# Altium footprint library 653 0xx 114 822.PcbLib: 9 footprints
Each footprint in its own frame and in the unit in brackets; x right, y up, seen from the top. Pads: shape width x height; smd on the part's side, far side on the other; paste and mask are expansions set on the pad; w line width, h text height; cw(c..) or ccw(c..) is an arc to the next point about the centre after c.
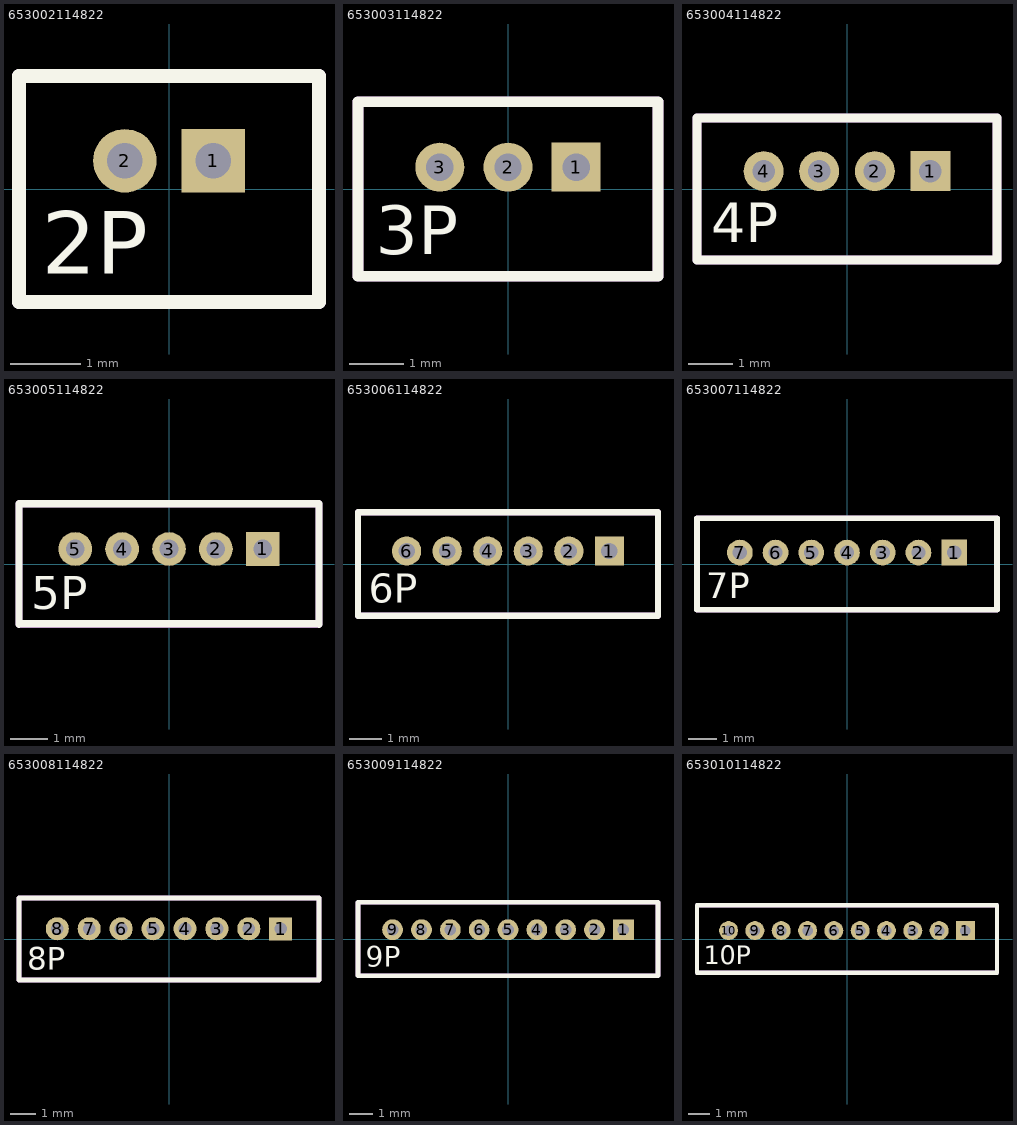
[diagram p0: the footprints below, top view; thin cyan lines are the x and y axes]

## 653002114822 [mm] "1.25mm Male Vertical Shrouded Header, 2p"
height 4.2
pads (2):
  rect 0.9x0.9 hole 0.5: 1(0.625,0.4)
  round 0.9 hole 0.5: 2(-0.625,0.4)
Top Overlay:
  lines w0.2: -2.125,-1.6 2.125,-1.6 2.125,1.6 -2.125,1.6 -2.125,-1.6
  text "2P" at -1.8,-1.2 h0.89
Mechanical 13:
  lines w0.2: -2.125,-1.6 -2.125,1.6 2.125,1.6 2.125,-1.6 -2.125,-1.6
3D body "653002114822.stp": height 4.25, standoff -2.25, extent -2.125,-1.6 2.125,1.6

## 653003114822 [mm] "1.25mm Male Vertical Shrouded Header, 3p"
height 4.2
pads (3):
  rect 0.9x0.9 hole 0.5: 1(1.25,0.4)
  round 0.9 hole 0.5: 2(0,0.4) 3(-1.25,0.4)
Top Overlay:
  lines w0.2: -2.75,-1.6 2.75,-1.6 2.75,1.6 -2.75,1.6 -2.75,-1.6
  text "3P" at -2.425,-1.2 h0.89
Mechanical 13:
  lines w0.2: -2.75,-1.6 -2.75,1.6 2.75,1.6 2.75,-1.6 -2.75,-1.6
3D body "653003114822.stp": height 4.25, standoff -2.25, extent -2.75,-1.6 2.75,1.6

## 653004114822 [mm] "1.25mm Male Vertical Shrouded Header, 4p"
height 4.2
pads (4):
  rect 0.9x0.9 hole 0.5: 1(1.875,0.4)
  round 0.9 hole 0.5: 2(0.625,0.4) 3(-0.625,0.4) 4(-1.875,0.4)
Top Overlay:
  lines w0.2: -3.375,-1.6 -3.375,1.6 3.375,1.6 3.375,-1.6 -3.375,-1.6
  text "4P" at -3.05,-1.2 h0.89
Mechanical 13:
  lines w0.2: -3.375,-1.6 3.375,-1.6 3.375,1.6 -3.375,1.6 -3.375,-1.6
3D body "653004114822.stp": height 4.25, standoff -2.25, extent -3.375,-1.6 3.375,1.6

## 653005114822 [mm] "1.25mm Male Vertical Shrouded Header, 5p"
height 4.2
pads (5):
  rect 0.9x0.9 hole 0.5: 1(2.5,0.4)
  round 0.9 hole 0.5: 2(1.25,0.4) 3(0,0.4) 4(-1.25,0.4) 5(-2.5,0.4)
Top Overlay:
  lines w0.2: -4,-1.6 4,-1.6 4,1.6 -4,1.6 -4,-1.6
  text "5P" at -3.675,-1.2 h0.89
Mechanical 13:
  lines w0.2: -4,-1.6 -4,1.6 4,1.6 4,-1.6 -4,-1.6
3D body "653005114822.stp": height 4.25, standoff -2.25, extent -4,-1.6 4,1.6

## 653006114822 [mm] "1.25mm Male Vertical Shrouded Header, 6p"
height 4.2
pads (6):
  rect 0.9x0.9 hole 0.5: 1(3.125,0.4)
  round 0.9 hole 0.5: 2(1.875,0.4) 3(0.625,0.4) 4(-0.625,0.4) 5(-1.875,0.4) 6(-3.125,0.4)
Top Overlay:
  lines w0.2: -4.625,-1.6 -4.625,1.6 4.625,1.6 4.625,-1.6 -4.625,-1.6
  text "6P" at -4.3,-1.2 h0.89
Mechanical 13:
  lines w0.2: -4.625,-1.6 -4.625,1.6 4.625,1.6 4.625,-1.6 -4.625,-1.6
3D body "653006114822.stp": height 4.25, standoff -2.25, extent -4.625,-1.6 4.625,1.6

## 653007114822 [mm] "1.25mm Male Vertical Shrouded Header, 7p"
height 4.2
pads (7):
  rect 0.9x0.9 hole 0.5: 1(3.75,0.4)
  round 0.9 hole 0.5: 2(2.5,0.4) 3(1.25,0.4) 4(0,0.4) 5(-1.25,0.4) 6(-2.5,0.4) 7(-3.75,0.4)
Top Overlay:
  lines w0.2: -5.25,-1.6 5.25,-1.6 5.25,1.6 -5.25,1.6 -5.25,-1.6
  text "7P" at -4.925,-1.2 h0.89
Mechanical 13:
  lines w0.2: -5.25,-1.6 5.25,-1.6 5.25,1.6 -5.25,1.6 -5.25,-1.6
3D body "653007114822.stp": height 4.25, standoff -2.25, extent -5.25,-1.6 5.25,1.6

## 653008114822 [mm] "1.25mm Male Vertical Shrouded Header, 8p"
height 4.2
pads (8):
  rect 0.9x0.9 hole 0.5: 1(4.375,0.4)
  round 0.9 hole 0.5: 2(3.125,0.4) 3(1.875,0.4) 4(0.625,0.4) 5(-0.625,0.4) 6(-1.875,0.4) 7(-3.125,0.4) 8(-4.375,0.4)
Top Overlay:
  lines w0.2: -5.875,-1.6 -5.875,1.6 5.875,1.6 5.875,-1.6 -5.875,-1.6
  text "8P" at -5.55,-1.2 h0.89
Mechanical 13:
  lines w0.2: -5.875,-1.6 -5.875,1.6 5.875,1.6 5.875,-1.6 -5.875,-1.6
3D body "653008114822.stp": height 4.25, standoff -2.25, extent -5.875,-1.6 5.875,1.6

## 653009114822 [mm] "1.25mm Male Vertical Shrouded Header, 9p"
height 4.2
pads (9):
  rect 0.9x0.9 hole 0.5: 1(5,0.4)
  round 0.9 hole 0.5: 2(3.75,0.4) 3(2.5,0.4) 4(1.25,0.4) 5(0,0.4) 6(-1.25,0.4) 7(-2.5,0.4) 8(-3.75,0.4) 9(-5,0.4)
Top Overlay:
  lines w0.2: -6.5,-1.6 6.5,-1.6 6.5,1.6 -6.5,1.6 -6.5,-1.6
  text "9P" at -6.175,-1.2 h0.89
Mechanical 13:
  lines w0.2: -6.5,-1.6 6.5,-1.6 6.5,1.6 -6.5,1.6 -6.5,-1.6
3D body "653009114822.stp": height 4.25, standoff -2.25, extent -6.5,-1.6 6.5,1.6

## 653010114822 [mm] "1.25mm Male Vertical Shrouded Header, 10p"
height 4.2
pads (10):
  rect 0.9x0.9 hole 0.5: 1(5.625,0.4)
  round 0.9 hole 0.5: 2(4.375,0.4) 3(3.125,0.4) 4(1.875,0.4) 5(0.625,0.4) 6(-0.625,0.4) 7(-1.875,0.4) 8(-3.125,0.4) 9(-4.375,0.4) 10(-5.625,0.4)
Top Overlay:
  lines w0.2: -7.125,-1.6 -7.125,1.6 7.125,1.6 7.125,-1.6 -7.125,-1.6
  text "10P" at -6.8,-1.2 h0.89
Mechanical 13:
  lines w0.2: -7.125,-1.6 -7.125,1.6 7.125,1.6 7.125,-1.6 -7.125,-1.6
3D body "653010114822.stp": height 4.25, standoff -2.25, extent -7.125,-1.6 7.125,1.6